# Altium integrated library Analog Devices RF IF Direct Digital Synthesis.IntLib: 76 symbols (part 6 of 9)
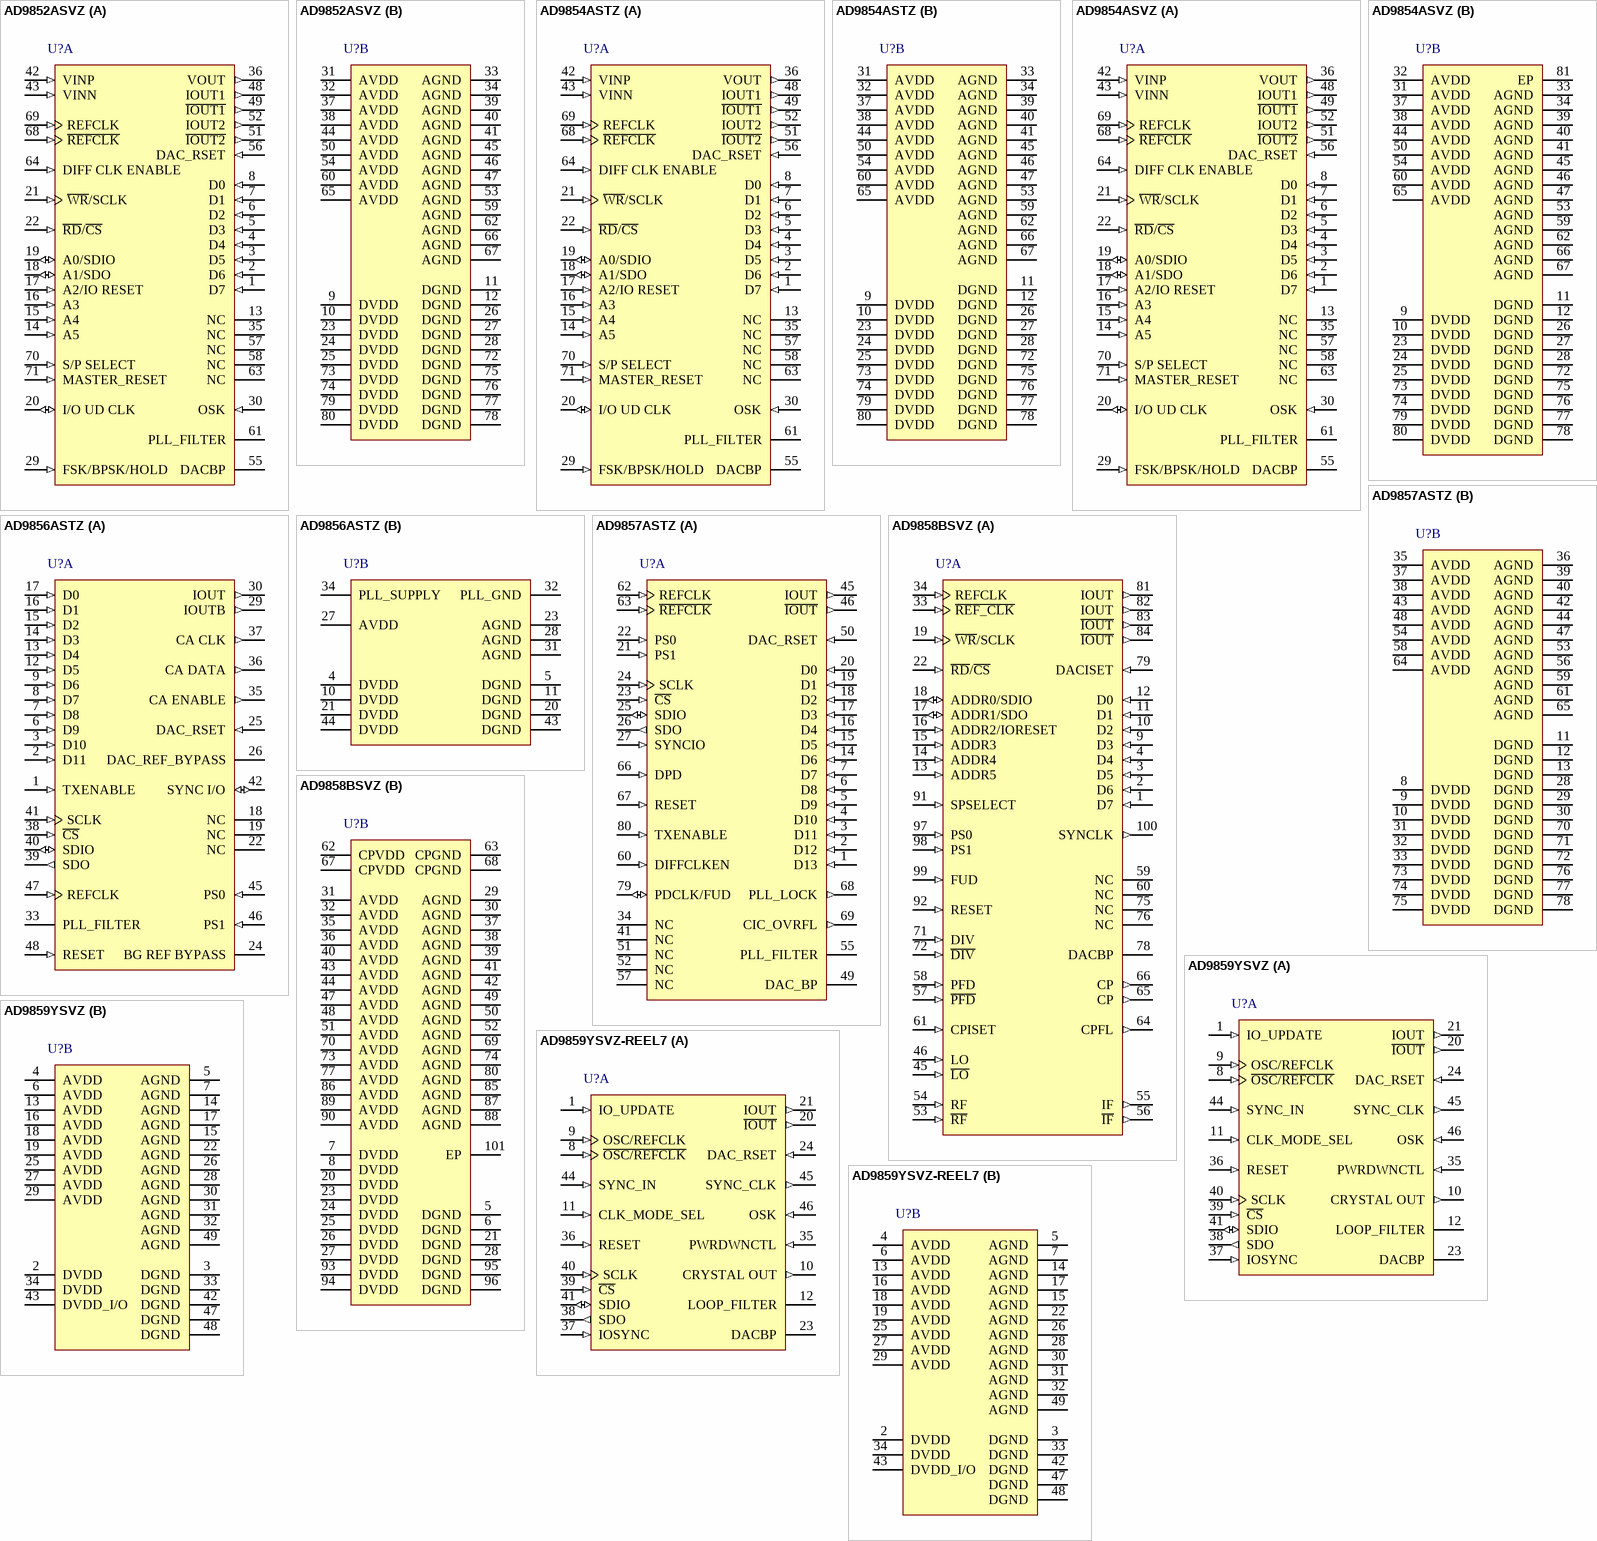
[diagram p10: symbols AD9852ASVZ to AD9859YSVZ-REEL7]

## AD9858BSVZ
designator U?
1 GSPS Direct Digital Synthesizer, 10-Bit, Parallel, Serial, SV-100-1, 90 Tray, Pb-Free; Master fclk: 1GHz; Resolution (Bits): 10bit; Tuning Word Width (bits): 32bit; REFCLK Multiplier: No; Compliance Range (V): 3.8V; FS Iout (mA nom): 40mA; DatasheetVersion: Rev. C; PackageVersion: 040506-A; PackageReference: SV-100-1; PackageDescription: 100-Lead Thin Quad Flat Package, Exposed Pad [TQFP_EP]; I/O Interface: Parallel, Serial; Code_JEDEC: MS-026-AED-HD; ComponentLink1Description: Manufacturer URL; ComponentLink1URL: www.analog.com; ComponentLink2Description: Datasheet; ComponentLink2URL: http://www.analog.com/static/imported-files/data_sheets/AD9858.pdf; ComponentLink3Description: Package Specification; ComponentLink3URL: http://www.analog.com/static/imported-files/packages/PKG_PDF/TQFP_ED(SV)/SV_100_1.pdf
footprint ADI-SV-100-1_N (Thin QFP, 100-Leads, Body 14x14mm, Pitch 0.5mm, Thermal Pad 6.5x6.5mm, IPC Medium Density)
footprint ADI-SV-100-1_L (Thin QFP, 100-Leads, Body 14x14mm, Pitch 0.5mm, Thermal Pad 6.5x6.5mm, IPC High Density)
footprint ADI-SV-100-1_M (Thin QFP, 100-Leads, Body 14x14mm, Pitch 0.5mm, Thermal Pad 6.5x6.5mm, IPC Low Density)
part A pins: 1 D7 (in) "Parallel Port Data. The functionality of these pins is valid only when the I/O port is configured as a parallel port", 2 D6 (in) "Parallel Port Data. The functionality of these pins is valid only when the I/O port is configured as a parallel port", 3 D5 (in) "Parallel Port Data. The functionality of these pins is valid only when the I/O port is configured as a parallel port", 4 D4 (in) "Parallel Port Data. The functionality of these pins is valid only when the I/O port is configured as a parallel port", 9 D3 (in) "Parallel Port Data. The functionality of these pins is valid only when the I/O port is configured as a parallel port", 10 D2 (in) "Parallel Port Data. The functionality of these pins is valid only when the I/O port is configured as a parallel port", 11 D1 (in) "Parallel Port Data. The functionality of these pins is valid only when the I/O port is configured as a parallel port", 12 D0 (in) "Parallel Port Data. The functionality of these pins is valid only when the I/O port is configured as a parallel port", 13 ADDR5 (in) "When the I/O port is configured as a parallel port, these pins serve as a 6-bit address select for accessing the on-chip registers (see the IORESET, SDO, and SDIO pins for the serial port mode).", 14 ADDR4 (in) "When the I/O port is configured as a parallel port, these pins serve as a 6-bit address select for accessing the on-chip registers (see the IORESET, SDO, and SDIO pins for the serial port mode).", 15 ADDR3 (in) "When the I/O port is configured as a parallel port, these pins serve as a 6-bit address select for accessing the on-chip registers (see the IORESET, SDO, and SDIO pins for the serial port mode).", 16 ADDR2/IORESET (in) "When the I/O port is configured as a parallel port, these pins serve as a 6-bit address select for accessing the on-chip registers (see the IORESET, SDO, and SDIO pins for the serial port mode).", 17 ADDR1/SDO (io) "When the I/O port is configured as a parallel port, these pins serve as a 6-bit address select for accessing the on-chip registers (see the IORESET, SDO, and SDIO pins for the serial port mode). [see datasheet]", 18 ADDR0/SDIO (io) "When the I/O port is configured as a parallel port, these pins serve as a 6-bit address select for accessing the on-chip registers ./This is valid for serial programming mode only. [see datasheet]", 19 ~{WR}/SCLK (in) "When the I/O port is configured for parallel programming mode, this pin functions as an active  low write pulse (WR). [see datasheet]", 22 ~{RD}/~{CS} (in) "When the I/O port is configured for parallel programming mode, this pin functions as an active low read pulse (RD). [see datasheet]", 33 ~{REF_CLK} (in) "Reference Clock Complementary Input. When the REFCLK port operates in single-ended mode,  REFCLK should be decoupled to AVDD with a 0.1 uF capacitor.", 34 REFCLK (in) "Reference Clock Input", 45 ~{LO} (in) "Mixer Local Oscillator (LO) Complementary Input. When the LO port operates in single-ended  mode, LO should be decoupled to AVDD with a 0.1 uF capacitor", 46 LO (in) "Mixer Local Oscillator (LO) Input", 53 ~{RF} (in) "Analog Mixer RF Complementary Input. When the RF port operates in single-ended mode, RF should be decoupled to AVDD with a 0.1 uF capacitor", 54 RF (in) "Analog Mixer RF Input", 55 IF (out) "Analog Mixer IF Output", 56 ~{IF} (out) "Analog Mixer IF Complementary Output", 57 ~{PFD} (in) "Phase Frequency Detector Complementary Input. When the PFD port operates in single-ended mode, PFD should be decoupled to AVDD with a 0.1 uF capacitor.", 58 PFD (in) "Phase Frequency Detector Input", 59 NC "No Connection", 60 NC "No Connection", 61 CPISET (in) "Charge Pump Output Current Control. A resistor connected from CPISET to CPGND establishes the reference current for the charge pump.", 64 CPFL (out) "Charge Pump Fast Lock Output", 65 CP (out) "Charge Pump Output", 66 CP (out) "Charge Pump Output", 71 DIV (in) "Phase Frequency Detector Feedback Input", 72 ~{DIV} (in) "Phase Frequency Detector Feedback Complementary Input. When the DIV port operates in single-ended mode, DIV should be decoupled to AVDD with a 0.1 uF capacitor", 75 NC "No Connection", 76 NC "No Connection", 78 DACBP "DAC Baseline Decoupling Pin. Typically bypassed to Pin 77 with a 0.1 uF capacitor", 79 DACISET (in) "A resistor connected from DACISET to AGND establishes the reference current for the DAC", 81 IOUT (out) "DAC Output", 82 IOUT (out) "DAC Output", 83 ~{IOUT} (out) "DAC Complementary Output", 84 ~{IOUT} (out) "DAC Complementary Output", 91 SPSELECT (in) "I/O Port Serial/Parallel Programming Mode Select Pin. Logic 0 is serial programming mode, and Logic 1 is parallel programming mode", 92 RESET (in) "Active High Hardware Reset Pin. Assertion of the RESET pin forces the AD9858 to its default operating conditions", 97 PS0 (in) "Used to select one of the four internal profiles. These pins are synchronous to the SYNCLK output", 98 PS1 (in) "Used to select one of the four internal profiles. These pins are synchronous to the SYNCLK output", 99 FUD (in) "Frequency Update. The rising edge transfers the contents of the internal buffer registers to the  memory registers. This pin is synchronous to the SYNCLK output", 100 SYNCLK (out) "Clock Output Pin. Serves as a synchronizer for external hardware. SYNCLK runs at REFCLK/8"
part B pins: 5 DGND (power) "Digitial Ground", 6 DGND (power) "Digitial Ground", 7 DVDD (power) "Digital Supply Voltage.", 8 DVDD (power) "Digital Supply Voltage.", 20 DVDD (power) "Digital Supply Voltage.", 21 DGND (power) "Digitial Ground", 23 DVDD (power) "Digital Supply Voltage.", 24 DVDD (power) "Digital Supply Voltage.", 25 DVDD (power) "Digital Supply Voltage.", 26 DVDD (power) "Digital Supply Voltage.", 27 DVDD (power) "Digital Supply Voltage.", 28 DGND (power) "Digitial Ground", 29 AGND (power) "Analog Ground", 30 AGND (power) "Analog Ground", 31 AVDD (power) "Analog Supply Voltage", 32 AVDD (power) "Analog Supply Voltage", 35 AVDD (power) "Analog Supply Voltage", 36 AVDD (power) "Analog Supply Voltage", 37 AGND (power) "Analog Ground", 38 AGND (power) "Analog Ground", 39 AGND (power) "Analog Ground", 40 AVDD (power) "Analog Supply Voltage", 41 AGND (power) "Analog Ground", 42 AGND (power) "Analog Ground", 43 AVDD (power) "Analog Supply Voltage", 44 AVDD (power) "Analog Supply Voltage", 47 AVDD (power) "Analog Supply Voltage", 48 AVDD (power) "Analog Supply Voltage", 49 AGND (power) "Analog Ground", 50 AGND (power) "Analog Ground", 51 AVDD (power) "Analog Supply Voltage", 52 AGND (power) "Analog Ground", 62 CPVDD (power) "Charge Pump Supply Voltage", 63 CPGND (power) "Charge Pump Ground", 67 CPVDD (power) "Charge Pump Supply Voltage", 68 CPGND (power) "Charge Pump Ground", 69 AGND (power) "Analog Ground", 70 AVDD (power) "Analog Supply Voltage", 73 AVDD (power) "Analog Supply Voltage", 74 AGND (power) "Analog Ground", 77 AVDD (power) "Analog Supply Voltage", 80 AGND (power) "Analog Ground", 85 AGND (power) "Analog Ground", 86 AVDD (power) "Analog Supply Voltage", 87 AGND (power) "Analog Ground", 88 AGND (power) "Analog Ground", 89 AVDD (power) "Analog Supply Voltage", 90 AVDD (power) "Analog Supply Voltage", 93 DVDD (power) "Digital Supply Voltage.", 94 DVDD (power) "Digital Supply Voltage.", 95 DGND (power) "Digitial Ground", 96 DGND (power) "Digitial Ground", 101 EP (power) "Exposed paddle must be soldered to ground."

## AD9859YSVZ
designator U?
400 MSPS, 10-Bit, 1.8 V CMOS Direct Digital Synthesizer, Serial, SV-48-4, 250 Tray, Pb-Free; Master fclk: 400MHz; Resolution (Bits): 10bit; Tuning Word Width (bits): 32bit; REFCLK Multiplier: Yes; Compliance Range (V): 2.05V; FS Iout (mA nom): 20mA; DatasheetVersion: Rev. A; PackageVersion: 10/21/2005; PackageReference: SV-48-4; PackageDescription: 48-Lead Thin Quad Flat Package, Exposed Pad [TQFP_EP]; I/O Interface: Serial; Code_JEDEC: MS-026-ABC; ComponentLink1Description: Manufacturer URL; ComponentLink1URL: www.analog.com; ComponentLink2Description: Datasheet; ComponentLink2URL: http://www.analog.com/static/imported-files/data_sheets/AD9859.pdf; ComponentLink3Description: Package Specification; ComponentLink3URL: http://www.analog.com/static/imported-files/packages/PKG_PDF/TQFP_ED(SV)/SV_48_4.pdf
footprint ADI-SV-48-4_N (Thin QFP, 48-Leads, Body 7x7mm, Pitch 0.5mm, Thermal Pad 3.5x3.5mm, IPC Medium Density)
footprint ADI-SV-48-4_L (Thin QFP, 48-Leads, Body 7x7mm, Pitch 0.5mm, Thermal Pad 3.5x3.5mm, IPC High Density)
footprint ADI-SV-48-4_M (Thin QFP, 48-Leads, Body 7x7mm, Pitch 0.5mm, Thermal Pad 3.5x3.5mm, IPC Low Density)
part A pins: 1 IO_UPDATE (in) "The rising edge transfers the contents of the internal buffer memory to the I/O registers. This pin must be set up and held around the SYNC_CLK output signal.", 8 ~{OSC/REFCLK} (in) "Complementary Reference Clock/Oscillator Input. When the REFCLK port is operated in singleended mode, REFCLKB should be decoupled to AVDD with a 0.1 uF capacitor.", 9 OSC/REFCLK (in) "Reference Clock/Oscillator Input. See the Clock Input section for details on the OSCILLATOR/REFCLK operation.", 10 CRYSTAL OUT (out) "Output of the Oscillator Section.", 11 CLK_MODE_SEL (in) "Control Pin for the Oscillator Section. When high, the oscillator section is enabled. When low, the oscillator section is bypassed.", 12 LOOP_FILTER "This pin provides the connection for the external zero compensation network of the REFCLK multiplier’s PLL loop filter. [see datasheet]", 20 ~{IOUT} (out) "Complementary DAC Output. Should be biased through a resistor to AVDD, not AGND.", 21 IOUT (out) "DAC Output. Should be biased through a resistor to AVDD, not AGND.", 23 DACBP "DAC Band Gap Decoupling Pin. A 0.1 uF capacitor to AGND is recommended.", 24 DAC_RSET (in) "A resistor (3.92 k? nominal) connected from AGND to DAC_RSET establishes the reference current for the DAC.", 35 PWRDWNCTL (in) "Input Pin Used as an External Power-Down Control (see Table 8 for details)", 36 RESET (in) "Active High Hardware Reset Pin. Asserting the RESET pin forces the AD9859 to the initial state, as described in the I/O port register map.", 37 IOSYNC (in) "Asynchronous Active High Reset of the Serial Port Controller. When high, the current I/O operation is immediately terminated, enabling a new I/O operation to commence once IOSYNC is returned low. [see datasheet]", 38 SDO (out) "When operating the I/O port as a 3-wire serial port, this pin serves as the serial data output. When operated as a 2-wire serial port, this pin is unused and can be left unconnected.", 39 ~{CS} (in) "This pin functions as an active low chip select that allows multiple devices to share the I/O bus.", 40 SCLK (in) "This pin functions as the serial data clock for I/O operations.", 41 SDIO (io) "When operating the I/O port as a 3-wire serial port, this pin serves as the serial data input only. When operated as a 2-wire serial port, this pin is the bidirectional serial data pin.", 44 SYNC_IN (in) "Input Signal Used to Synchronize Multiple AD9859s. This input is connected to the SYNC_CLK output of a master AD9859.", 45 SYNC_CLK (out) "Clock Output Pin Serves as a Synchronizer for External Hardware.", 46 OSK (in) "Input Pin Used to Control the Direction of the Shaped On-Off Keying Function when Programmed for Operation. OSK is synchronous to the SYNC_CLK pin. [see datasheet]"
part B pins: 2 DVDD (power) "Digital Power Supply Pins (1.8 V).", 3 DGND (power) "Digital Power Ground Pins.", 4 AVDD (power) "Analog Power Supply Pins (1.8 V)", 5 AGND (power) "Analog Power Ground Pins.", 6 AVDD (power) "Analog Power Supply Pins (1.8 V)", 7 AGND (power) "Analog Power Ground Pins.", 13 AVDD (power) "Analog Power Supply Pins (1.8 V)", 14 AGND (power) "Analog Power Ground Pins.", 15 AGND (power) "Analog Power Ground Pins.", 16 AVDD (power) "Analog Power Supply Pins (1.8 V)", 17 AGND (power) "Analog Power Ground Pins.", 18 AVDD (power) "Analog Power Supply Pins (1.8 V)", 19 AVDD (power) "Analog Power Supply Pins (1.8 V)", 22 AGND (power) "Analog Power Ground Pins.", 25 AVDD (power) "Analog Power Supply Pins (1.8 V)", 26 AGND (power) "Analog Power Ground Pins.", 27 AVDD (power) "Analog Power Supply Pins (1.8 V)", 28 AGND (power) "Analog Power Ground Pins.", 29 AVDD (power) "Analog Power Supply Pins (1.8 V)", 30 AGND (power) "Analog Power Ground Pins.", 31 AGND (power) "Analog Power Ground Pins.", 32 AGND (power) "Analog Power Ground Pins.", 33 DGND (power) "Digital Power Ground Pins.", 34 DVDD (power) "Digital Power Supply Pins (1.8 V).", 42 DGND (power) "Digital Power Ground Pins.", 43 DVDD_I/O (power) "Digital Power Supply (for I/O Cells Only, 3.3 V).", 47 DGND (power) "Digital Power Ground Pins.", 48 DGND (power) "Digital Power Ground Pins.", 49 AGND (power) "The exposed paddle on the bottom of the package is a ground connection for the DAC and must be attached to AGND in any board layout."

## AD9859YSVZ-REEL7
designator U?
400 MSPS, 10-Bit, 1.8 V CMOS Direct Digital Synthesizer, Serial, SV-48-4, 500 Reel, Pb-Free; Master fclk: 400MHz; Resolution (Bits): 10bit; Tuning Word Width (bits): 32bit; REFCLK Multiplier: Yes; Compliance Range (V): 2.05V; FS Iout (mA nom): 20mA; DatasheetVersion: Rev. A; PackageVersion: 10/21/2005; PackageReference: SV-48-4; PackageDescription: 48-Lead Thin Quad Flat Package, Exposed Pad [TQFP_EP]; I/O Interface: Serial; Code_JEDEC: MS-026-ABC; ComponentLink1Description: Manufacturer URL; ComponentLink1URL: www.analog.com; ComponentLink2Description: Datasheet; ComponentLink2URL: http://www.analog.com/static/imported-files/data_sheets/AD9859.pdf; ComponentLink3Description: Package Specification; ComponentLink3URL: http://www.analog.com/static/imported-files/packages/PKG_PDF/TQFP_ED(SV)/SV_48_4.pdf
footprint ADI-SV-48-4_N (Thin QFP, 48-Leads, Body 7x7mm, Pitch 0.5mm, Thermal Pad 3.5x3.5mm, IPC Medium Density)
footprint ADI-SV-48-4_L (Thin QFP, 48-Leads, Body 7x7mm, Pitch 0.5mm, Thermal Pad 3.5x3.5mm, IPC High Density)
footprint ADI-SV-48-4_M (Thin QFP, 48-Leads, Body 7x7mm, Pitch 0.5mm, Thermal Pad 3.5x3.5mm, IPC Low Density)
part A pins: 1 IO_UPDATE (in) "The rising edge transfers the contents of the internal buffer memory to the I/O registers. This pin must be set up and held around the SYNC_CLK output signal.", 8 ~{OSC/REFCLK} (in) "Complementary Reference Clock/Oscillator Input. When the REFCLK port is operated in singleended mode, REFCLKB should be decoupled to AVDD with a 0.1 uF capacitor.", 9 OSC/REFCLK (in) "Reference Clock/Oscillator Input. See the Clock Input section for details on the OSCILLATOR/REFCLK operation.", 10 CRYSTAL OUT (out) "Output of the Oscillator Section.", 11 CLK_MODE_SEL (in) "Control Pin for the Oscillator Section. When high, the oscillator section is enabled. When low, the oscillator section is bypassed.", 12 LOOP_FILTER "This pin provides the connection for the external zero compensation network of the REFCLK multiplier’s PLL loop filter. [see datasheet]", 20 ~{IOUT} (out) "Complementary DAC Output. Should be biased through a resistor to AVDD, not AGND.", 21 IOUT (out) "DAC Output. Should be biased through a resistor to AVDD, not AGND.", 23 DACBP "DAC Band Gap Decoupling Pin. A 0.1 uF capacitor to AGND is recommended.", 24 DAC_RSET (in) "A resistor (3.92 k? nominal) connected from AGND to DAC_RSET establishes the reference current for the DAC.", 35 PWRDWNCTL (in) "Input Pin Used as an External Power-Down Control (see Table 8 for details)", 36 RESET (in) "Active High Hardware Reset Pin. Asserting the RESET pin forces the AD9859 to the initial state, as described in the I/O port register map.", 37 IOSYNC (in) "Asynchronous Active High Reset of the Serial Port Controller. When high, the current I/O operation is immediately terminated, enabling a new I/O operation to commence once IOSYNC is returned low. [see datasheet]", 38 SDO (out) "When operating the I/O port as a 3-wire serial port, this pin serves as the serial data output. When operated as a 2-wire serial port, this pin is unused and can be left unconnected.", 39 ~{CS} (in) "This pin functions as an active low chip select that allows multiple devices to share the I/O bus.", 40 SCLK (in) "This pin functions as the serial data clock for I/O operations.", 41 SDIO (io) "When operating the I/O port as a 3-wire serial port, this pin serves as the serial data input only. When operated as a 2-wire serial port, this pin is the bidirectional serial data pin.", 44 SYNC_IN (in) "Input Signal Used to Synchronize Multiple AD9859s. This input is connected to the SYNC_CLK output of a master AD9859.", 45 SYNC_CLK (out) "Clock Output Pin Serves as a Synchronizer for External Hardware.", 46 OSK (in) "Input Pin Used to Control the Direction of the Shaped On-Off Keying Function when Programmed for Operation. OSK is synchronous to the SYNC_CLK pin. [see datasheet]"
part B pins: 2 DVDD (power) "Digital Power Supply Pins (1.8 V).", 3 DGND (power) "Digital Power Ground Pins.", 4 AVDD (power) "Analog Power Supply Pins (1.8 V)", 5 AGND (power) "Analog Power Ground Pins.", 6 AVDD (power) "Analog Power Supply Pins (1.8 V)", 7 AGND (power) "Analog Power Ground Pins.", 13 AVDD (power) "Analog Power Supply Pins (1.8 V)", 14 AGND (power) "Analog Power Ground Pins.", 15 AGND (power) "Analog Power Ground Pins.", 16 AVDD (power) "Analog Power Supply Pins (1.8 V)", 17 AGND (power) "Analog Power Ground Pins.", 18 AVDD (power) "Analog Power Supply Pins (1.8 V)", 19 AVDD (power) "Analog Power Supply Pins (1.8 V)", 22 AGND (power) "Analog Power Ground Pins.", 25 AVDD (power) "Analog Power Supply Pins (1.8 V)", 26 AGND (power) "Analog Power Ground Pins.", 27 AVDD (power) "Analog Power Supply Pins (1.8 V)", 28 AGND (power) "Analog Power Ground Pins.", 29 AVDD (power) "Analog Power Supply Pins (1.8 V)", 30 AGND (power) "Analog Power Ground Pins.", 31 AGND (power) "Analog Power Ground Pins.", 32 AGND (power) "Analog Power Ground Pins.", 33 DGND (power) "Digital Power Ground Pins.", 34 DVDD (power) "Digital Power Supply Pins (1.8 V).", 42 DGND (power) "Digital Power Ground Pins.", 43 DVDD_I/O (power) "Digital Power Supply (for I/O Cells Only, 3.3 V).", 47 DGND (power) "Digital Power Ground Pins.", 48 DGND (power) "Digital Power Ground Pins.", 49 AGND (power) "The exposed paddle on the bottom of the package is a ground connection for the DAC and must be attached to AGND in any board layout."

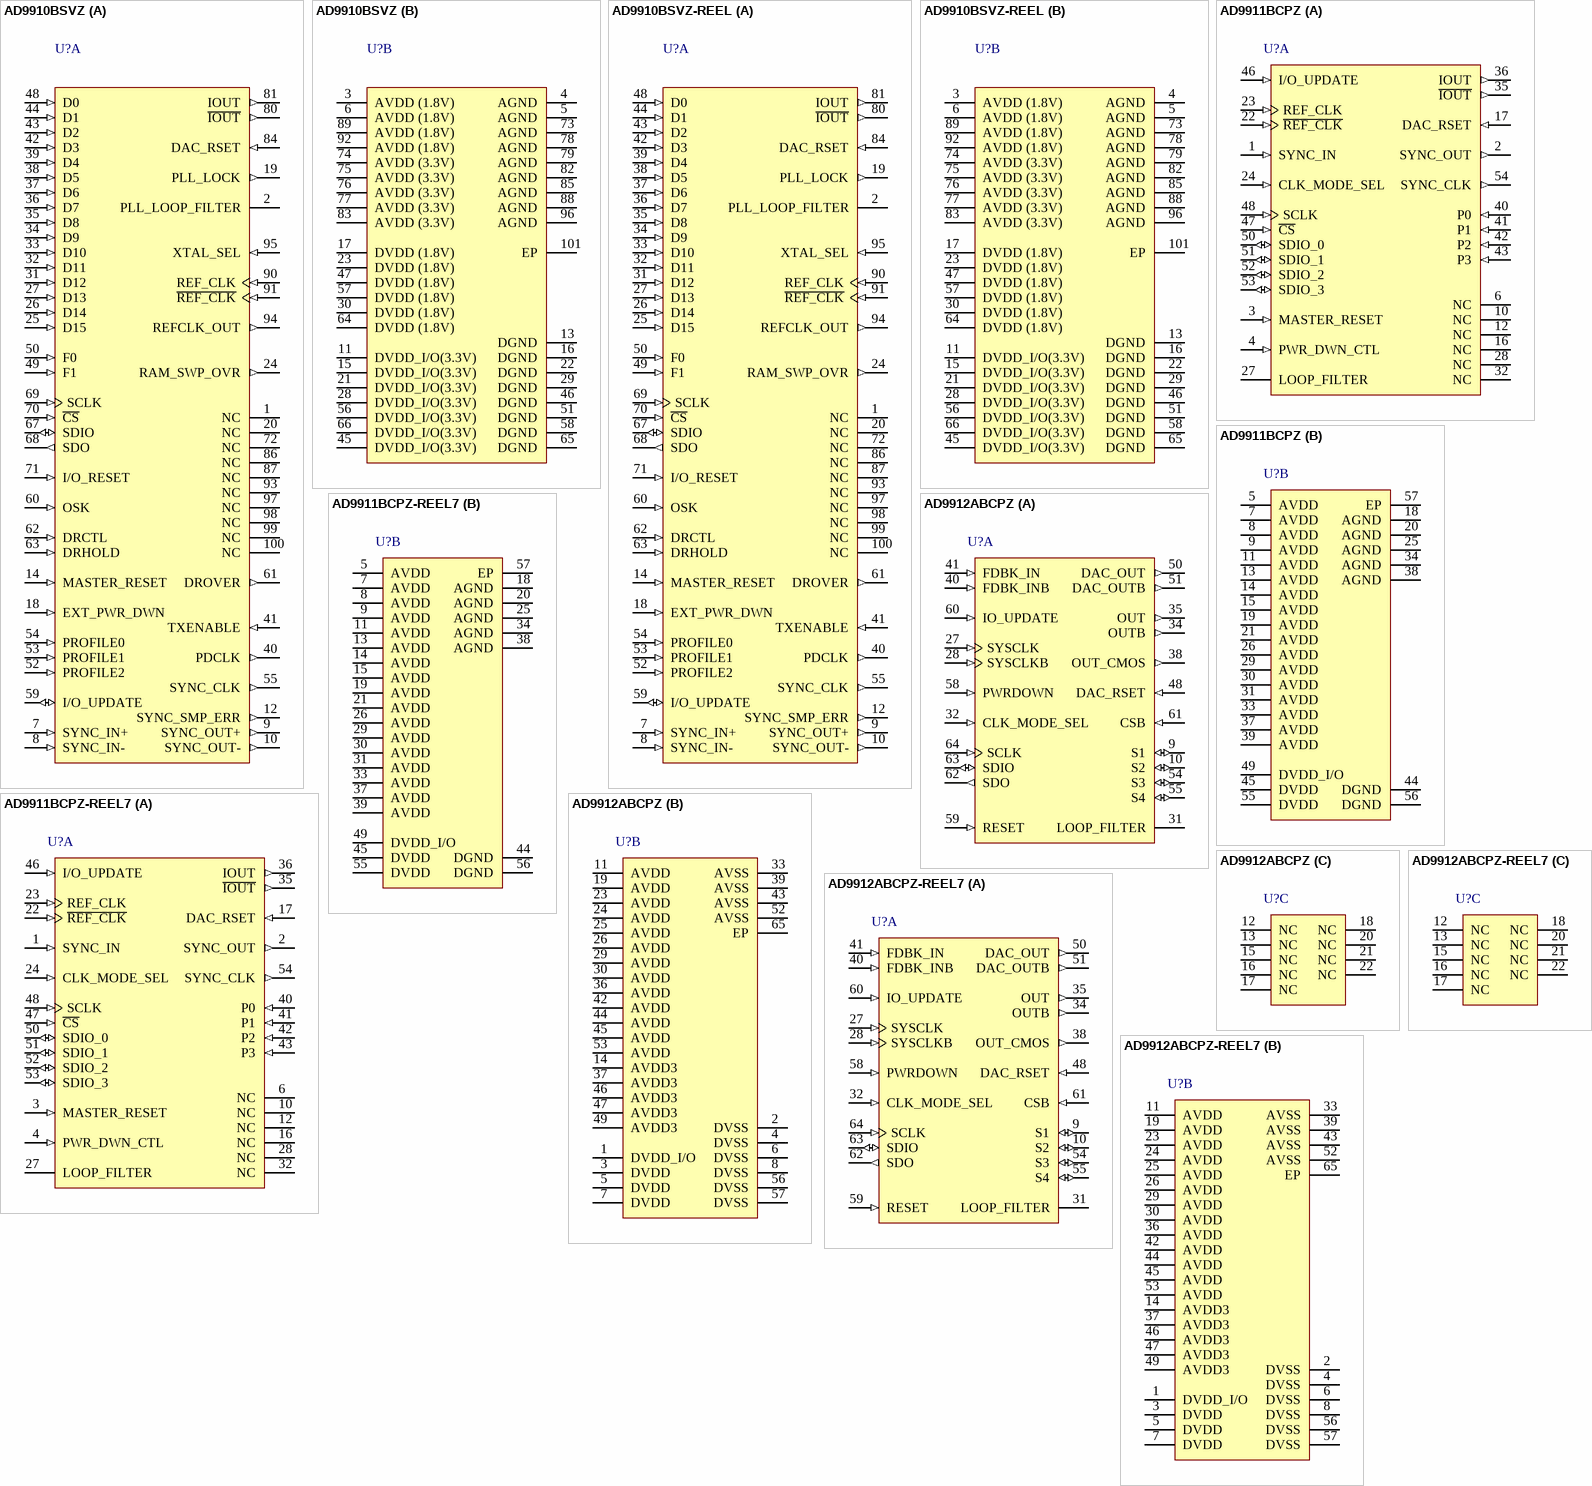
[diagram p3: symbols AD9910BSVZ to AD9912ABCPZ-REEL7]

## AD9910BSVZ
designator U?
1 GSPS, 14-Bit, 3.3 V CMOS Direct Digital Synthesizer, Parallel, Serial, SV-100-4, 90 Tray, Pb-Free; Master fclk: 1GHz; Resolution (Bits): 14bit; Tuning Word Width (bits): 32bit; REFCLK Multiplier: Yes; Compliance Range (V): 500mV; FS Iout (mA nom): 20mA; DatasheetVersion: Rev. C; PackageVersion: 043106-A; PackageReference: SV-100-4; PackageDescription: 100-Lead Thin Quad Flat Package, Exposed Pad [TQFP_EP]; I/O Interface: Parallel, Serial; Code_JEDEC: MS-026-AED-HD; ComponentLink1Description: Manufacturer URL; ComponentLink1URL: www.analog.com; ComponentLink2Description: Datasheet; ComponentLink2URL: http://www.analog.com/static/imported-files/data_sheets/AD9910.pdf; ComponentLink3Description: Package Specification; ComponentLink3URL: http://www.analog.com/static/imported-files/packages/PKG_PDF/TQFP_ED(SV)/SV_100_4.pdf
footprint ADI-SV-100-4_N (Thin QFP, 100-Leads, Body 14x14mm, Pitch 0.5mm, Thermal Pad 5x5mm, IPC Medium Density)
footprint ADI-SV-100-4_L (Thin QFP, 100-Leads, Body 14x14mm, Pitch 0.5mm, Thermal Pad 5x5mm, IPC High Density)
footprint ADI-SV-100-4_M (Thin QFP, 100-Leads, Body 14x14mm, Pitch 0.5mm, Thermal Pad 5x5mm, IPC Low Density)
part A pins: 1 NC "Not Connected. Allow device pins to float.", 2 PLL_LOOP_FILTER "PLL Loop Filter Compensation Pin. See the External PLL Loop Filter Components section for details", 7 SYNC_IN+ (in) "Synchronization Signal (LVDS), Digital Input (Rising Edge Active). The synchronization signal from the external master to synchronize internal subclocks. [see datasheet]", 8 SYNC_IN- (in) "Synchronization Signal (LVDS), Digital Input. The synchronization signal from the external master to synchronize internal subclocks. [see datasheet]", 9 SYNC_OUT+ (out) "Synchronization Signal (LVDS), Digital Output (Rising Edge Active). The synchronization signal from the internal device subclocks to synchronize external slave devices. [see datasheet]", 10 SYNC_OUT- (out) "Synchronization Signal (LVDS), Digital Output. The synchronization signal from the internal device subclocks to synchronize external slave devices. [see datasheet]", 12 SYNC_SMP_ERR (out) "Synchronization Sample Error, Digital Output (Active High). Sync sample error: a high on this pin indicates that the AD9910 did not receive a valid sync signal on SYNC_IN+/SYNC_IN-.", 14 MASTER_RESET (in) "Master Reset, Digital Input (Active High). Master reset: clears all memory elements and sets registers to default values.", 18 EXT_PWR_DWN (in) "External Power-Down, Digital Input (Active High). A high level on this pin initiates the currently programmed power-down mode. See the Power-Down Control section for further details. [see datasheet]", 19 PLL_LOCK (out) "Clock Multiplier PLL Lock, Digital Output (Active High). A high on this pin indicates that the Clock Multiplier PLL has acquired lock to the reference clock input.", 20 NC "Not Connected. Allow device pins to float.", 24 RAM_SWP_OVR (out) "RAM Sweep Over, Digital Output (Active High). A high on this pin indicates that the RAM sweep profile has completed.", 25 D15 (in) "Parallel Input Bus (Active High).", 26 D14 (in) "Parallel Input Bus (Active High).", 27 D13 (in) "Parallel Input Bus (Active High).", 31 D12 (in) "Parallel Input Bus (Active High).", 32 D11 (in) "Parallel Input Bus (Active High).", 33 D10 (in) "Parallel Input Bus (Active High).", 34 D9 (in) "Parallel Input Bus (Active High).", 35 D8 (in) "Parallel Input Bus (Active High).", 36 D7 (in) "Parallel Input Bus (Active High).", 37 D6 (in) "Parallel Input Bus (Active High).", 38 D5 (in) "Parallel Input Bus (Active High).", 39 D4 (in) "Parallel Input Bus (Active High).", 40 PDCLK (out) "Parallel Data Clock. This is the digital output (clock). The parallel data clock provides a timing signal for aligning data at the parallel inputs.", 41 TXENABLE (in) "Transmit Enable. Digital input (active high). In burst mode communications, a high on this pin indicates new data for transmission. In continuous mode, this pin remains high.", 42 D3 (in) "Parallel Input Bus (Active High).", 43 D2 (in) "Parallel Input Bus (Active High).", 44 D1 (in) "Parallel Input Bus (Active High).", 48 D0 (in) "Parallel Input Bus (Active High).", 49 F1 (in) "Modulation Format Pin. Digital input to determine the modulation format.", 50 F0 (in) "Modulation Format Pin. Digital input to determine the modulation format.", 52 PROFILE2 (in) "Profile Select Pins. Digital inputs (active high). Use these pins to select one of eight phase/frequency profiles for the DDS. Changing the state of one of these pins transfers the current contents of all I/O buffers to the corresponding registers. [see", 53 PROFILE1 (in) "Profile Select Pins. Digital inputs (active high). Use these pins to select one of eight phase/frequency profiles for the DDS. Changing the state of one of these pins transfers the current contents of all I/O buffers to the corresponding registers. [see", 54 PROFILE0 (in) "Profile Select Pins. Digital inputs (active high). Use these pins to select one of eight phase/frequency profiles for the DDS. Changing the state of one of these pins transfers the current contents of all I/O buffers to the corresponding registers. [see", 55 SYNC_CLK (out) "Output Clock Divided-By-Four. A digital output (clock). Many of the digital inputs on the chip, such as I/O_UPDATE and PROFILE[2:0], need to be set up on the rising edge of this signal.", 59 I/O_UPDATE (io) "Input/Output Update. Digital input (active high). A high on this pin transfers the contents of the I/O buffers to the corresponding internal registers.", 60 OSK (in) "Output Shift Keying. Digital input (active high). When the OSK features are placed in either manual or automatic mode, this pin controls the OSK function. [see datasheet]", 61 DROVER (out) "Digital Ramp Over. Digital output (active high). This pin switches to Logic 1 whenever the digital ramp generator reaches its programmed upper or lower limit.", 62 DRCTL (in) "Digital Ramp Control. Digital input (active high). This pin controls the slope polarity of the digital ramp generator. See the Digital Ramp Generator (DRG) section for more details. [see datasheet]", 63 DRHOLD (in) "Digital Ramp Hold. Digital input (active high). This pin stalls the digital ramp generator in its present state. See the Digital Ramp Generator (DRG) section for more details. [see datasheet]", 67 SDIO (io) "Serial Data Input/Output. Digital input/output (active high). This pin can be either unidirectional or bidirectional (default),depending on the configuration settings. [see datasheet]", 68 SDO (out) "Serial Data Output. Digital output (active high). This pin is only active in unidirectional serial data mode. In this mode, it functions as the output. [see datasheet]", 69 SCLK (in) "Serial Data Clock. Digital clock (rising edge on write, falling edge on read). This pin provides the serial data clock for the control data path. [see datasheet]", 70 ~{CS} (in) "Chip Select. Digital input (active low). This pin allows the AD9910 to operate on a common serial bus for the control data path. Bringing this pin low enables the AD9910 to detect serial clock rising/falling edges. [see datasheet]", 71 I/O_RESET (in) "Input/Output Reset. Digital input (active high). This pin can be used when a serial I/O communication cycle fails (see the I/O_RESET—Input/Output Reset section for details). [see datasheet]", 72 NC "Not Connected. Allow device pins to float.", 80 ~{IOUT} (out) "Open-Drain DAC Complementary Output Source. Analog output (current mode). Connect through a 50  ohm resistor to AGND.", 81 IOUT (out) "Open-Drain DAC Output Source. Analog output (current mode). Connect through a 50  ohm resistor to AGND.", 84 DAC_RSET (in) "Analog Reference Pin. This pin programs the DAC output full-scale reference current. Attach a 10 k ohm resistor to AGND.", 86 NC "Not Connected. Allow device pins to float.", 87 NC "Not Connected. Allow device pins to float.", 90 REF_CLK (in) "Reference Clock Input. Analog input. When the internal oscillator is engaged, this pin can be driven by either an external oscillator or connected to a crystal. [see datasheet]", 91 ~{REF_CLK} (in) "Reference Clock Input. Analog input. See the REF_CLK/ Overview section for more details.", 93 NC "Not Connected. Allow device pins to float.", 94 REFCLK_OUT (out) "Crystal Output. Analog output. See the REF_CLK/ Overview section for more details.", 95 XTAL_SEL (in) "Crystal Select (1.8 V Logic). Analog input (active high). Driving the XTAL_SEL pin high,  the AVDD (1.8V) pin enables the internal oscillator to be used with a crystal resonator. [see datasheet]", 97 NC "Not Connected. Allow device pins to float.", 98 NC "Not Connected. Allow device pins to float.", 99 NC "Not Connected. Allow device pins to float.", 100 NC "Not Connected. Allow device pins to float."
part B pins: 3 AVDD (1.8V) (power) "Analog Core VDD, 1.8 V Analog Supplies.", 4 AGND (power) "Analog Ground.", 5 AGND (power) "Analog Ground.", 6 AVDD (1.8V) (power) "Analog Core VDD, 1.8 V Analog Supplies.", 11 DVDD_I/O(3.3V) (power) "Digital Input/Output VDD, 3.3 V Digital Supplies.", 13 DGND (power) "Digital Ground.", 15 DVDD_I/O(3.3V) (power) "Digital Input/Output VDD, 3.3 V Digital Supplies.", 16 DGND (power) "Digital Ground.", 17 DVDD (1.8V) (power) "Digital Core VDD, 1.8 V Digital Supplies.", 21 DVDD_I/O(3.3V) (power) "Digital Input/Output VDD, 3.3 V Digital Supplies.", 22 DGND (power) "Digital Ground.", 23 DVDD (1.8V) (power) "Digital Core VDD, 1.8 V Digital Supplies.", 28 DVDD_I/O(3.3V) (power) "Digital Input/Output VDD, 3.3 V Digital Supplies.", 29 DGND (power) "Digital Ground.", 30 DVDD (1.8V) (power) "Digital Core VDD, 1.8 V Digital Supplies.", 45 DVDD_I/O(3.3V) (power) "Digital Input/Output VDD, 3.3 V Digital Supplies.", 46 DGND (power) "Digital Ground.", 47 DVDD (1.8V) (power) "Digital Core VDD, 1.8 V Digital Supplies.", 51 DGND (power) "Digital Ground.", 56 DVDD_I/O(3.3V) (power) "Digital Input/Output VDD, 3.3 V Digital Supplies.", 57 DVDD (1.8V) (power) "Digital Core VDD, 1.8 V Digital Supplies.", 58 DGND (power) "Digital Ground.", 64 DVDD (1.8V) (power) "Digital Core VDD, 1.8 V Digital Supplies.", 65 DGND (power) "Digital Ground.", 66 DVDD_I/O(3.3V) (power) "Digital Input/Output VDD, 3.3 V Digital Supplies.", 73 AGND (power) "Analog Ground.", 74 AVDD (3.3V) (power) "Analog DAC VDD, 3.3 V Analog Supplies.", 75 AVDD (3.3V) (power) "Analog DAC VDD, 3.3 V Analog Supplies.", 76 AVDD (3.3V) (power) "Analog DAC VDD, 3.3 V Analog Supplies.", 77 AVDD (3.3V) (power) "Analog DAC VDD, 3.3 V Analog Supplies.", 78 AGND (power) "Analog Ground.", 79 AGND (power) "Analog Ground.", 82 AGND (power) "Analog Ground.", 83 AVDD (3.3V) (power) "Analog DAC VDD, 3.3 V Analog Supplies.", 85 AGND (power) "Analog Ground.", 88 AGND (power) "Analog Ground.", 89 AVDD (1.8V) (power) "Analog Core VDD, 1.8 V Analog Supplies.", 92 AVDD (1.8V) (power) "Analog Core VDD, 1.8 V Analog Supplies.", 96 AGND (power) "Analog Ground.", 101 EP (power) "The EPAD should be soldered to ground."

## AD9910BSVZ-REEL
designator U?
1 GSPS, 14-Bit, 3.3 V CMOS Direct Digital Synthesizer, Parallel, Serial, SV-100-4, 1000 Reel, Pb-Free; Master fclk: 1GHz; Resolution (Bits): 14bit; Tuning Word Width (bits): 32bit; REFCLK Multiplier: Yes; Compliance Range (V): 500mV; FS Iout (mA nom): 20mA; DatasheetVersion: Rev. C; PackageVersion: 043106-A; PackageReference: SV-100-4; PackageDescription: 100-Lead Thin Quad Flat Package, Exposed Pad [TQFP_EP]; I/O Interface: Parallel, Serial; Code_JEDEC: MS-026-AED-HD; ComponentLink1Description: Manufacturer URL; ComponentLink1URL: www.analog.com; ComponentLink2Description: Datasheet; ComponentLink2URL: http://www.analog.com/static/imported-files/data_sheets/AD9910.pdf; ComponentLink3Description: Package Specification; ComponentLink3URL: http://www.analog.com/static/imported-files/packages/PKG_PDF/TQFP_ED(SV)/SV_100_4.pdf
footprint ADI-SV-100-4_N (Thin QFP, 100-Leads, Body 14x14mm, Pitch 0.5mm, Thermal Pad 5x5mm, IPC Medium Density)
footprint ADI-SV-100-4_L (Thin QFP, 100-Leads, Body 14x14mm, Pitch 0.5mm, Thermal Pad 5x5mm, IPC High Density)
footprint ADI-SV-100-4_M (Thin QFP, 100-Leads, Body 14x14mm, Pitch 0.5mm, Thermal Pad 5x5mm, IPC Low Density)
part A pins: 1 NC "Not Connected. Allow device pins to float.", 2 PLL_LOOP_FILTER "PLL Loop Filter Compensation Pin. See the External PLL Loop Filter Components section for details", 7 SYNC_IN+ (in) "Synchronization Signal (LVDS), Digital Input (Rising Edge Active). The synchronization signal from the external master to synchronize internal subclocks. [see datasheet]", 8 SYNC_IN- (in) "Synchronization Signal (LVDS), Digital Input. The synchronization signal from the external master to synchronize internal subclocks. [see datasheet]", 9 SYNC_OUT+ (out) "Synchronization Signal (LVDS), Digital Output (Rising Edge Active). The synchronization signal from the internal device subclocks to synchronize external slave devices. [see datasheet]", 10 SYNC_OUT- (out) "Synchronization Signal (LVDS), Digital Output. The synchronization signal from the internal device subclocks to synchronize external slave devices. [see datasheet]", 12 SYNC_SMP_ERR (out) "Synchronization Sample Error, Digital Output (Active High). Sync sample error: a high on this pin indicates that the AD9910 did not receive a valid sync signal on SYNC_IN+/SYNC_IN-.", 14 MASTER_RESET (in) "Master Reset, Digital Input (Active High). Master reset: clears all memory elements and sets registers to default values.", 18 EXT_PWR_DWN (in) "External Power-Down, Digital Input (Active High). A high level on this pin initiates the currently programmed power-down mode. See the Power-Down Control section for further details. [see datasheet]", 19 PLL_LOCK (out) "Clock Multiplier PLL Lock, Digital Output (Active High). A high on this pin indicates that the Clock Multiplier PLL has acquired lock to the reference clock input.", 20 NC "Not Connected. Allow device pins to float.", 24 RAM_SWP_OVR (out) "RAM Sweep Over, Digital Output (Active High). A high on this pin indicates that the RAM sweep profile has completed.", 25 D15 (in) "Parallel Input Bus (Active High).", 26 D14 (in) "Parallel Input Bus (Active High).", 27 D13 (in) "Parallel Input Bus (Active High).", 31 D12 (in) "Parallel Input Bus (Active High).", 32 D11 (in) "Parallel Input Bus (Active High).", 33 D10 (in) "Parallel Input Bus (Active High).", 34 D9 (in) "Parallel Input Bus (Active High).", 35 D8 (in) "Parallel Input Bus (Active High).", 36 D7 (in) "Parallel Input Bus (Active High).", 37 D6 (in) "Parallel Input Bus (Active High).", 38 D5 (in) "Parallel Input Bus (Active High).", 39 D4 (in) "Parallel Input Bus (Active High).", 40 PDCLK (out) "Parallel Data Clock. This is the digital output (clock). The parallel data clock provides a timing signal for aligning data at the parallel inputs.", 41 TXENABLE (in) "Transmit Enable. Digital input (active high). In burst mode communications, a high on this pin indicates new data for transmission. In continuous mode, this pin remains high.", 42 D3 (in) "Parallel Input Bus (Active High).", 43 D2 (in) "Parallel Input Bus (Active High).", 44 D1 (in) "Parallel Input Bus (Active High).", 48 D0 (in) "Parallel Input Bus (Active High).", 49 F1 (in) "Modulation Format Pin. Digital input to determine the modulation format.", 50 F0 (in) "Modulation Format Pin. Digital input to determine the modulation format.", 52 PROFILE2 (in) "Profile Select Pins. Digital inputs (active high). Use these pins to select one of eight phase/frequency profiles for the DDS. Changing the state of one of these pins transfers the current contents of all I/O buffers to the corresponding registers. [see", 53 PROFILE1 (in) "Profile Select Pins. Digital inputs (active high). Use these pins to select one of eight phase/frequency profiles for the DDS. Changing the state of one of these pins transfers the current contents of all I/O buffers to the corresponding registers. [see", 54 PROFILE0 (in) "Profile Select Pins. Digital inputs (active high). Use these pins to select one of eight phase/frequency profiles for the DDS. Changing the state of one of these pins transfers the current contents of all I/O buffers to the corresponding registers. [see", 55 SYNC_CLK (out) "Output Clock Divided-By-Four. A digital output (clock). Many of the digital inputs on the chip, such as I/O_UPDATE and PROFILE[2:0], need to be set up on the rising edge of this signal.", 59 I/O_UPDATE (io) "Input/Output Update. Digital input (active high). A high on this pin transfers the contents of the I/O buffers to the corresponding internal registers.", 60 OSK (in) "Output Shift Keying. Digital input (active high). When the OSK features are placed in either manual or automatic mode, this pin controls the OSK function. [see datasheet]", 61 DROVER (out) "Digital Ramp Over. Digital output (active high). This pin switches to Logic 1 whenever the digital ramp generator reaches its programmed upper or lower limit.", 62 DRCTL (in) "Digital Ramp Control. Digital input (active high). This pin controls the slope polarity of the digital ramp generator. See the Digital Ramp Generator (DRG) section for more details. [see datasheet]", 63 DRHOLD (in) "Digital Ramp Hold. Digital input (active high). This pin stalls the digital ramp generator in its present state. See the Digital Ramp Generator (DRG) section for more details. [see datasheet]", 67 SDIO (io) "Serial Data Input/Output. Digital input/output (active high). This pin can be either unidirectional or bidirectional (default),depending on the configuration settings. [see datasheet]", 68 SDO (out) "Serial Data Output. Digital output (active high). This pin is only active in unidirectional serial data mode. In this mode, it functions as the output. [see datasheet]", 69 SCLK (in) "Serial Data Clock. Digital clock (rising edge on write, falling edge on read). This pin provides the serial data clock for the control data path. [see datasheet]", 70 ~{CS} (in) "Chip Select. Digital input (active low). This pin allows the AD9910 to operate on a common serial bus for the control data path. Bringing this pin low enables the AD9910 to detect serial clock rising/falling edges. [see datasheet]", 71 I/O_RESET (in) "Input/Output Reset. Digital input (active high). This pin can be used when a serial I/O communication cycle fails (see the I/O_RESET—Input/Output Reset section for details). [see datasheet]", 72 NC "Not Connected. Allow device pins to float.", 80 ~{IOUT} (out) "Open-Drain DAC Complementary Output Source. Analog output (current mode). Connect through a 50  ohm resistor to AGND.", 81 IOUT (out) "Open-Drain DAC Output Source. Analog output (current mode). Connect through a 50  ohm resistor to AGND.", 84 DAC_RSET (in) "Analog Reference Pin. This pin programs the DAC output full-scale reference current. Attach a 10 k ohm resistor to AGND.", 86 NC "Not Connected. Allow device pins to float.", 87 NC "Not Connected. Allow device pins to float.", 90 REF_CLK (in) "Reference Clock Input. Analog input. When the internal oscillator is engaged, this pin can be driven by either an external oscillator or connected to a crystal. [see datasheet]", 91 ~{REF_CLK} (in) "Reference Clock Input. Analog input. See the REF_CLK/ Overview section for more details.", 93 NC "Not Connected. Allow device pins to float.", 94 REFCLK_OUT (out) "Crystal Output. Analog output. See the REF_CLK/ Overview section for more details.", 95 XTAL_SEL (in) "Crystal Select (1.8 V Logic). Analog input (active high). Driving the XTAL_SEL pin high,  the AVDD (1.8V) pin enables the internal oscillator to be used with a crystal resonator. [see datasheet]", 97 NC "Not Connected. Allow device pins to float.", 98 NC "Not Connected. Allow device pins to float.", 99 NC "Not Connected. Allow device pins to float.", 100 NC "Not Connected. Allow device pins to float."
part B pins: 3 AVDD (1.8V) (power) "Analog Core VDD, 1.8 V Analog Supplies.", 4 AGND (power) "Analog Ground.", 5 AGND (power) "Analog Ground.", 6 AVDD (1.8V) (power) "Analog Core VDD, 1.8 V Analog Supplies.", 11 DVDD_I/O(3.3V) (power) "Digital Input/Output VDD, 3.3 V Digital Supplies.", 13 DGND (power) "Digital Ground.", 15 DVDD_I/O(3.3V) (power) "Digital Input/Output VDD, 3.3 V Digital Supplies.", 16 DGND (power) "Digital Ground.", 17 DVDD (1.8V) (power) "Digital Core VDD, 1.8 V Digital Supplies.", 21 DVDD_I/O(3.3V) (power) "Digital Input/Output VDD, 3.3 V Digital Supplies.", 22 DGND (power) "Digital Ground.", 23 DVDD (1.8V) (power) "Digital Core VDD, 1.8 V Digital Supplies.", 28 DVDD_I/O(3.3V) (power) "Digital Input/Output VDD, 3.3 V Digital Supplies.", 29 DGND (power) "Digital Ground.", 30 DVDD (1.8V) (power) "Digital Core VDD, 1.8 V Digital Supplies.", 45 DVDD_I/O(3.3V) (power) "Digital Input/Output VDD, 3.3 V Digital Supplies.", 46 DGND (power) "Digital Ground.", 47 DVDD (1.8V) (power) "Digital Core VDD, 1.8 V Digital Supplies.", 51 DGND (power) "Digital Ground.", 56 DVDD_I/O(3.3V) (power) "Digital Input/Output VDD, 3.3 V Digital Supplies.", 57 DVDD (1.8V) (power) "Digital Core VDD, 1.8 V Digital Supplies.", 58 DGND (power) "Digital Ground.", 64 DVDD (1.8V) (power) "Digital Core VDD, 1.8 V Digital Supplies.", 65 DGND (power) "Digital Ground.", 66 DVDD_I/O(3.3V) (power) "Digital Input/Output VDD, 3.3 V Digital Supplies.", 73 AGND (power) "Analog Ground.", 74 AVDD (3.3V) (power) "Analog DAC VDD, 3.3 V Analog Supplies.", 75 AVDD (3.3V) (power) "Analog DAC VDD, 3.3 V Analog Supplies.", 76 AVDD (3.3V) (power) "Analog DAC VDD, 3.3 V Analog Supplies.", 77 AVDD (3.3V) (power) "Analog DAC VDD, 3.3 V Analog Supplies.", 78 AGND (power) "Analog Ground.", 79 AGND (power) "Analog Ground.", 82 AGND (power) "Analog Ground.", 83 AVDD (3.3V) (power) "Analog DAC VDD, 3.3 V Analog Supplies.", 85 AGND (power) "Analog Ground.", 88 AGND (power) "Analog Ground.", 89 AVDD (1.8V) (power) "Analog Core VDD, 1.8 V Analog Supplies.", 92 AVDD (1.8V) (power) "Analog Core VDD, 1.8 V Analog Supplies.", 96 AGND (power) "Analog Ground.", 101 EP (power) "The EPAD should be soldered to ground."

## AD9911BCPZ
designator U?
500 MSPS Direct Digital Synthesizer with 10-Bit DAC, Serial, CP-56-1, 260 Tray, Pb-Free; Master fclk: 500MHz; Resolution (Bits): 10bit; Tuning Word Width (bits): 32bit; REFCLK Multiplier: Yes; Compliance Range (V): 1.8V; FS Iout (mA nom): 10mA; I Supply total (max): 73mA; DatasheetVersion: Rev. 0; PackageVersion: 112805-0; PackageReference: CP-56-1; PackageDescription: 56-Lead Lead Frame Chip Scale Package [LFCSP_VQ]; I/O Interface: Serial; Code_JEDEC: MO-220-VLLD-2; ComponentLink1Description: Manufacturer URL; ComponentLink1URL: www.analog.com; ComponentLink2Description: Datasheet; ComponentLink2URL: http://www.analog.com/static/imported-files/data_sheets/AD9911.pdf; ComponentLink3Description: Package Specification; ComponentLink3URL: http://www.analog.com/static/imported-files/packages/32698137492825CP_56_1.pdf
footprint ADI-CP-56-1_N (QFN, 56-Leads, Body 8x8mm, Pitch 0.5mm, Thermal Pad 6.1x6.1mm, IPC Medium Density)
footprint ADI-CP-56-1_L (QFN, 56-Leads, Body 8x8mm, Pitch 0.5mm, Thermal Pad 6.1x6.1mm, IPC High Density)
footprint ADI-CP-56-1_M (QFN, 56-Leads, Body 8x8mm, Pitch 0.5mm, Thermal Pad 6.1x6.1mm, IPC Low Density)
part A pins: 1 SYNC_IN (in) "Synchronizes Multiple AD9911 Devices. Connects to the SYNC_OUT pin of the master AD9911 device.", 2 SYNC_OUT (out) "Synchronizes Multiple AD9911 Devices. Connects to the SYNC_IN pin of the slave AD9911 device.", 3 MASTER_RESET (in) "Active High Reset Pin. Asserting this pin forces the internal registers to the default state shown in the Register Map section.", 4 PWR_DWN_CTL (in) "External Power-Down Control. See the Power Down Functions section for details.", 6 NC "No Connection. Analog Devices recommends leaving these pins floating.", 10 NC "No Connection. Analog Devices recommends leaving these pins floating.", 12 NC "No Connection. Analog Devices recommends leaving these pins floating.", 16 NC "No Connection. Analog Devices recommends leaving these pins floating.", 17 DAC_RSET (in) "Establishes the Reference Current for the DAC. A 1.91 k ohm resistor (nominal) is connected from Pin 17 to AGND.", 22 ~{REF_CLK} (in) "Complementary Reference Clock/Oscillator Input. When the REF_CLK is operated in single-ended mode, this pin should be decoupled to AVDD or AGND with a  0.1 uF capacitor.", 23 REF_CLK (in) "Reference Clock/Oscillator Input. When the REF_CLK operates in single-ended mode, Pin 23 is the input. See the Modes of Operation section for the reference clock configuration.", 24 CLK_MODE_SEL (in) "Control Pin for the Oscillator. CAUTION: Do not drive this pin beyond 1.8 V. When high (1.8 V), the oscillator is enabled to accept a crystal as the REF_CLK source. [see datasheet]", 27 LOOP_FILTER "Connects to the External Zero Compensation Network of the PLL Loop Filter. Typically, the network consists of a 0  ohm resistor in series with a 680 pF capacitor tied to AVDD.", 28 NC "No Connection. Analog Devices recommends leaving these pins floating.", 32 NC "No Connection. Analog Devices recommends leaving these pins floating.", 35 ~{IOUT} (out) "Complementary DAC Output. Terminates into AVDD.", 36 IOUT (out) "True DAC Output. Terminates into AVDD.", 40 P0 (in) "These data pins are used for modulation (FSK, PSK, ASK), start/stop for the sweep accumulator, and ramping up/down the output amplitude. [see datasheet]", 41 P1 (in) "These data pins are used for modulation (FSK, PSK, ASK), start/stop for the sweep accumulator, and ramping up/down the output amplitude. [see datasheet]", 42 P2 (in) "These data pins are used for modulation (FSK, PSK, ASK), start/stop for the sweep accumulator, and ramping up/down the output amplitude. [see datasheet]", 43 P3 (in) "These data pins are used for modulation (FSK, PSK, ASK), start/stop for the sweep accumulator, and ramping up/down the output amplitude. [see datasheet]", 46 I/O_UPDATE (in) "A rising edge triggers data transfer from the I/O port buffer to active registers. I/O_UPDATE is synchronous to the SYNC_CLK (Pin 54). [see datasheet]", 47 ~{CS} (in) "The active low chip select allows multiple devices to share a common I/O bus (SPI).", 48 SCLK (in) "Data Clock for I/O Operations. Data bits are written on the rising edge of SCLK and read on the falling edge of SCLK.", 50 SDIO_0 (io) "Data pin SDIO_0 is dedicated to the I/O port only.", 51 SDIO_1 (io) "Data pins SDIO_1:3 can be used for the I/O port or to initiate a ramp up/ramp down (RU/RD) of the DAC output amplitude.", 52 SDIO_2 (io) "Data pins SDIO_1:3 can be used for the I/O port or to initiate a ramp up/ramp down (RU/RD) of the DAC output amplitude.", 53 SDIO_3 (io) "Data pins SDIO_1:3 can be used for the I/O port or to initiate a ramp up/ramp down (RU/RD) of the DAC output amplitude.", 54 SYNC_CLK (out) "The SYNC_CLK, which runs at ?the system clock rate, can be disabled. I/O_UPDATE and profile changes (Pin 40 to Pin 43) are synchronous to the SYNC_CLK. [see datasheet]"
part B pins: 5 AVDD (power) "Analog Power Supply Pins (1.8 V).", 7 AVDD (power) "Analog Power Supply Pins (1.8 V).", 8 AVDD (power) "Analog Power Supply Pins (1.8 V).", 9 AVDD (power) "Analog Power Supply Pins (1.8 V).", 11 AVDD (power) "Analog Power Supply Pins (1.8 V).", 13 AVDD (power) "Analog Power Supply Pins (1.8 V).", 14 AVDD (power) "Analog Power Supply Pins (1.8 V).", 15 AVDD (power) "Analog Power Supply Pins (1.8 V).", 18 AGND (power) "Analog Ground Pins.", 19 AVDD (power) "Analog Power Supply Pins (1.8 V).", 20 AGND (power) "Analog Ground Pins.", 21 AVDD (power) "Analog Power Supply Pins (1.8 V).", 25 AGND (power) "Analog Ground Pins.", 26 AVDD (power) "Analog Power Supply Pins (1.8 V).", 29 AVDD (power) "Analog Power Supply Pins (1.8 V).", 30 AVDD (power) "Analog Power Supply Pins (1.8 V).", 31 AVDD (power) "Analog Power Supply Pins (1.8 V).", 33 AVDD (power) "Analog Power Supply Pins (1.8 V).", 34 AGND (power) "Analog Ground Pins.", 37 AVDD (power) "Analog Power Supply Pins (1.8 V).", 38 AGND (power) "Analog Ground Pins.", 39 AVDD (power) "Analog Power Supply Pins (1.8 V).", 44 DGND (power) "Digital Power Ground Pins.", 45 DVDD (power) "Digital Power Supply Pins (1.8 V).", 49 DVDD_I/O (power) "3.3 V Digital Power Supply for SPI Port and Digital I/O.", 55 DVDD (power) "Digital Power Supply Pins (1.8 V).", 56 DGND (power) "Digital Power Ground Pins.", 57 EP (power) "exposed pad"